# Altium schematic symbol library C0402C103K3RACTU.SchLib: 1 symbol
Pins are listed as number, name and electrical type; pins without a type are passive.

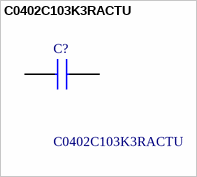
[diagram p0: symbol C0402C103K3RACTU]

## C0402C103K3RACTU
designator C?
SMD Comm X7R, Ceramic, 0.01 uF, 10%, 25 VDC, 62.5 VDC, 125C, -55C, X7R, SMD, MLCC, Temperature Stable, Class II, 3.5 % , 100 GOhms, 1.21 mg, 0402, 1mm, 0.5mm, 0.5mm, 0.3mm, 0.3mm, 10000, 78  Weeks, 80; Manufacturer_Name: KEMET; Geometry.Height: 0.55mm; Mouser Part Number: 80-C0402C103K3R; Mouser Price/Stock: https://www.mouser.co.uk/ProductDetail/KEMET/C0402C103K3RACTU?qs=A9KPa1hU2BRD%252BYWIRO5N9g%3D%3D; Manufacturer_Part_Number: C0402C103K3RACTU; Datasheet Link: https://content.kemet.com/datasheets/KEM_C1002_X7R_SMD.pdf
footprint CAPC1005X55N
pins: 1, 2